# Altium schematic symbol library C0603X132F4HAC7867.SchLib: 1 symbol
Pins are listed as number, name and electrical type; pins without a type are passive.

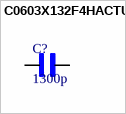
[diagram p0: symbol C0603X132F4HACTU]

## C0603X132F4HACTU
designator C?, comment 1300p
CAP CER 0603 1.3NF 16V ULTRA STA; Manufacturer_Part_Number: C0603X132F4HACTU; MF: KEMET; MP: C0603X132F4HAC7867; SnapEDA_Link: https://www.snapeda.com/parts/C0603X132F4HAC7867/KEMET/view-part/?ref=snap; Package: 1608 KEMET; Value: *; Check_prices: https://www.snapeda.com/parts/C0603X132F4HAC7867/KEMET/view-part/?ref=eda
footprint CAPC1608X95N
pins: 1, 2